# EAGLE library part 61301221121 (library Wuerth_Elektronik_eiCan_Pin_&_Socked_Headers_v1.3)
WR-PHD 2.54mm Dual Pin Header, 12 Pins
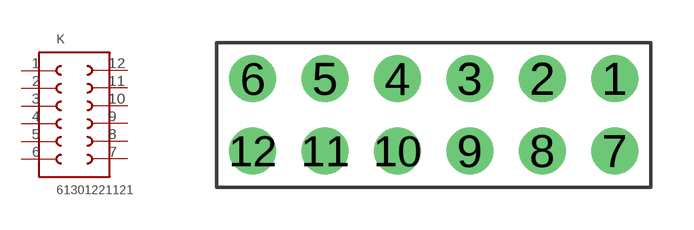
[diagram p21: symbol with the pads of 61301221121; footprint 61301221121]

Designator prefix K

## 61301221121  [61301221121]
1  1  pas
2  2  pas
3  3  pas
4  4  pas
5  5  pas
6  6  pas
7  7  pas
8  8  pas
9  9  pas
10  10  pas
11  11  pas
12  12  pas

## Footprint 61301221121 (pad centres in mm)
WR-PHD 2.54mm Dual Pin Header, 12 Pins
drill 1.1 round: 1 6.35,1.27; 2 3.81,1.27; 3 1.27,1.27; 4 -1.27,1.27; 5 -3.81,1.27; 6 -6.35,1.27; 7 6.35,-1.27; 8 3.81,-1.27; 9 1.27,-1.27; 10 -1.27,-1.27; 11 -3.81,-1.27; 12 -6.35,-1.27